# Altium schematic symbol library HGH.SchLib: 274 symbols (part 2 of 2)
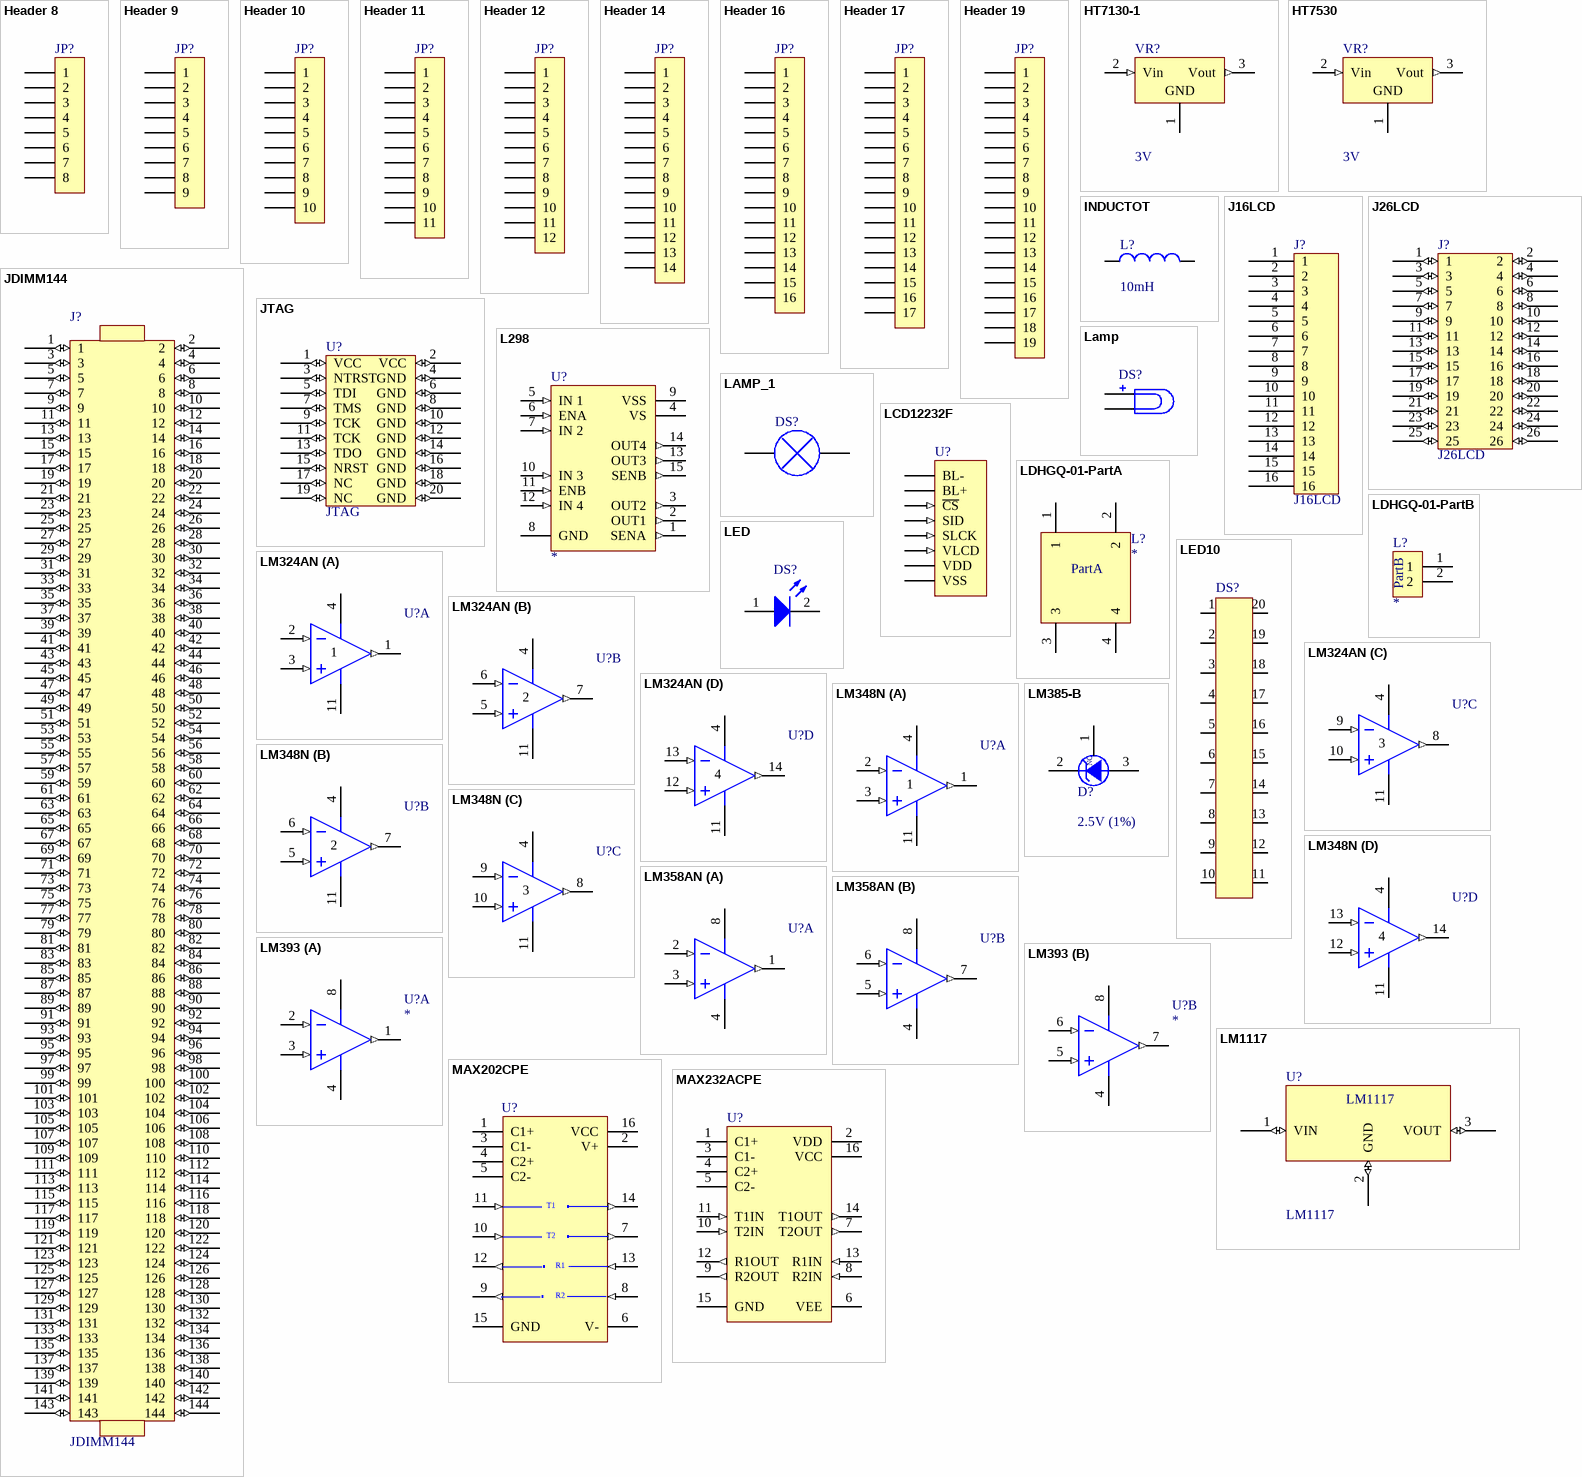
[diagram p10: symbols Header 8 to MAX232ACPE]

## LCD12232F
designator U?
LCD-HEAD8
footprint HEAD8M
footprint HEAD8M - F
pins: 1 BL- (power), 2 BL+ (power), 3 ~{CS} (in), 4 SID (in), 5 SLCK (in), 6 VLCD (in), 7 VDD (power), 8 VSS (power)

## LDHGQ-01-PartA
designator L?
Residual  current  inductor; Class: Inductor; Subclass: Current
footprint LDHGQ-PartA
pins: 1, 2, 3, 4
text: PartA

## LDHGQ-01-PartB
designator L?
Residual  current  inductor; Class: Inductor; Subclass: Current
footprint LDHGQ-PartB
pins: 1, 2
text: PartB

## LED
designator DS?
Typical RED, GREEN, YELLOW, AMBER GaAs LED; Manufacturer: Generic Components; Class: Optoelectronic; Published: 08/06/2000; Publisher: Altium Hobart Technology Centre; SubClass: LED
simulation model LED2 (Diode)
footprint LED0.1-0.15
footprint LED0.1-0.22
pins: 1 A, 2 K

## LED10
designator DS?
Typical RED, GREEN, YELLOW, AMBER GaAs LED; Manufacturer: Generic Components; Class: Optoelectronic; Published: 08/06/2000; Publisher: Altium Hobart Technology Centre; SubClass: LED
simulation model LED2 (Diode)
footprint DIP20
pins: 1 A, 2 A, 3 A, 4 A, 5 A, 6 A, 7 A, 8 A, 9 A, 10 A, 11 K, 12 K, 13 K, 14 K, 15 K, 16 K, 17 K, 18 K, 19 K, 20 K

## LM324AN
designator U?
Low-Power Quad Operational Amplifier; Manufacturer: National Semiconductor; Published: 15/04/2002; Publisher: Altium Hobart Technology Centre; Class: Amplifier; SubClass: Operational Amplifier
simulation model LM324_NSC (SUBCKT)
footprint DIP14
footprint SOP14_324_50MIL
pins on every part: 4 V+ (power), 11 GND (power)
part A pins: 1 OUT (out), 2 IN- (in), 3 IN+ (in)
part B pins: 5 IN+ (in), 6 IN- (in), 7 OUT (out)
part C pins: 8 OUT (out), 9 IN- (in), 10 IN+ (in)
part D pins: 12 IN+ (in), 13 IN- (in), 14 OUT (out)

## LM348N
designator U?
Quad 741 Operational Amplifier; Manufacturer: National Semiconductor; Published: 15/04/2002; Publisher: Altium Hobart Technology Centre; Class: Amplifier; SubClass: Operational Amplifier
simulation model LM348 (SUBCKT)
footprint DIP14
pins on every part: 4 V+ (power), 11 V- (power)
part A pins: 1 OUT (out), 2 IN- (in), 3 IN+ (in)
part B pins: 5 IN+ (in), 6 IN- (in), 7 OUT (out)
part C pins: 8 OUT (out), 9 IN- (in), 10 IN+ (in)
part D pins: 12 IN+ (in), 13 IN- (in), 14 OUT (out)

## LM358AN
designator U?
Low-Power Dual Operational Amplifier; Manufacturer: National Semiconductor; Published: 15/04/2002; Publisher: Altium Hobart Technology Centre; Class: Amplifier; SubClass: Operational Amplifier
simulation model LM358_NSC (SUBCKT)
footprint DIP8
pins on every part: 4 GND (power), 8 V+ (power)
part A pins: 1 OUT (out), 2 IN- (in), 3 IN+ (in)
part B pins: 5 IN+ (in), 6 IN- (in), 7 OUT (out)

## LM385-B
designator D?  value 2.5V (1%)
Micropower Voltage Reference Diode; Manufacturer: National Semiconductor; Class: Power Management; Published: 15/04/2002; Publisher: Altium Hobart Technology Centre; SubClass: Voltage Reference
footprint BCY-3 -F
footprint BCY-3 -F
footprint BCY-3-F/X
pins: 1 NC, 2 V+ (power), 3 V-

## LM393
designator U?
footprint DIP8
part A pins: 1 OUT (out), 2 IN- (in), 3 IN+ (in), 4 GND (power), 8 V+ (power)
part B pins: 4 GND (power), 5 IN+ (in), 6 IN- (in), 7 OUT (out), 8 V+ (power)

## LM1117
designator U?
footprint DSO-G3/P2.3
pins: 1 VIN (io), 2 GND (io), 3 VOUT (io)

## MAX202CPE
designator U?
+5V RS-232 Transceiver with 0.1uF External Capacitor; Manufacturer: Maxim; Class: Communication; Published: 16/01/2001; Publisher: Altium Hobart Technology Centre; SubClass: Transceiver
footprint DIP16
footprint SOP16_202
pins: 1 C1+, 2 V+ (power), 3 C1-, 4 C2+, 5 C2-, 6 V- (power), 7 T2OUT (out), 8 R2IN (in), 9 R2OUT (out), 10 T2IN (in), 11 T1IN (in), 12 R1OUT (out), 13 R1IN (in), 14 T1OUT (out), 15 GND (power), 16 VCC (power)
text: T1; T2; R1; R2

## MAX232ACPE
designator U?
+5V Powered, Multi-Channel RS-232 Driver/Receiver; Manufacturer: Maxim; Class: Communication; SubClass: Transceiver; Published: 16/01/2001; Publisher: Altium Hobart Technology Centre
footprint DIP16
pins: 1 C1+, 2 VDD (power), 3 C1-, 4 C2+, 5 C2-, 6 VEE (power), 7 T2OUT (out), 8 R2IN (in), 9 R2OUT (out), 10 T2IN (in), 11 T1IN (in), 12 R1OUT (out), 13 R1IN (in), 14 T1OUT (out), 15 GND (power), 16 VCC (power)

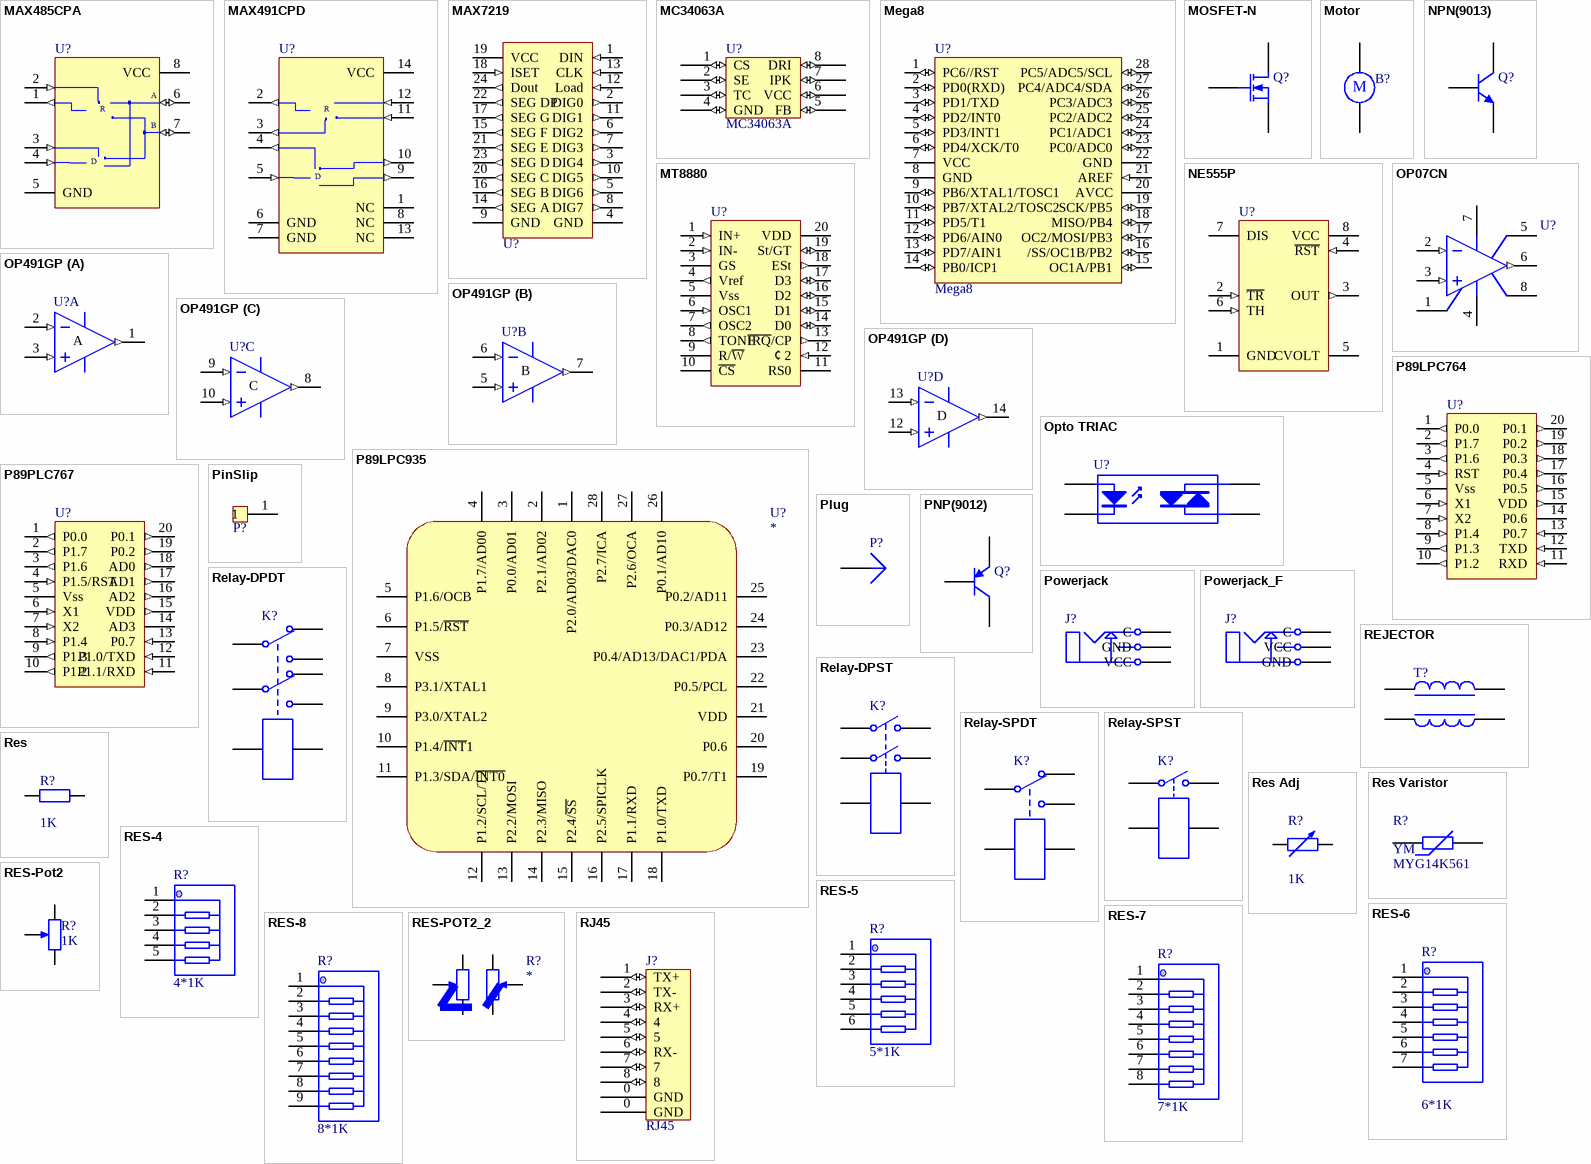
[diagram p6: symbols MAX485CPA to RJ45]

## MAX485CPA
designator U?
Low-Power, Slew-Rate-Limited RS-485/RS-422 Transceiver; Manufacturer: Maxim; Class: Communication; Published: 16/01/2001; Publisher: Altium Hobart Technology Centre; SubClass: Transceiver
footprint DIP8
footprint SOP8-max485
pins: 1 RO (out), 2 ~{RE} (in), 3 DE (in), 4 DI (in), 5 GND (power), 6 A (io), 7 B (io), 8 VCC (power)
text: R; D

## MAX491CPD
designator U?
Low-Power, Slew-Rate-Limited RS-485/RS-422 Transceiver; Manufacturer: Maxim; Class: Communication; Published: 16/01/2001; Publisher: Altium Hobart Technology Centre; SubClass: Transceiver
footprint DIP14
pins: 1 NC, 2 RO (out), 3 ~{RE} (out), 4 DE (out), 5 DI (in), 6 GND (power), 7 GND (power), 8 NC, 9 Y (out), 10 Z (out), 11 B (in), 12 A (in), 13 NC, 14 VCC (power)
text: R; D

## MAX7219
designator U?
Serial input/output / common-cathode display drivers; Manufacturer: Fairchild Semiconductor; Class: Logic; Published: 15/04/2002; Publisher: Altium Hobart Technology Centre
footprint DIP24 - 1
pins: 1 DIN (in), 2 DIG0 (out), 3 DIG4 (out), 4 GND (power), 5 DIG6 (out), 6 DIG2 (out), 7 DIG3 (out), 8 DIG7 (out), 9 GND (power), 10 DIG5 (out), 11 DIG1 (out), 12 Load (in), 13 CLK (in), 14 SEG A (out), 15 SEG F (out), 16 SEG B (out), 17 SEG G (out), 18 ISET (in), 19 VCC (power), 20 SEG C (out), 21 SEG E (out), 22 SEG DP (out), 23 SEG D (out), 24 Dout (out)

## MC34063A
designator U?
footprint SOP-8
pins: 1 CS (io), 2 SE (io), 3 TC (io), 4 GND (io), 5 FB (io), 6 VCC (io), 7 IPK (io), 8 DRI (io)

## Mega8
designator U?
footprint DIP28-1
pins: 1 PC6//RST (io), 2 PD0(RXD) (io), 3 PD1/TXD (io), 4 PD2/INT0 (io), 5 PD3/INT1 (io), 6 PD4/XCK/T0 (io), 7 VCC (power), 8 GND (power), 9 PB6/XTAL1/TOSC1 (io), 10 PB7/XTAL2/TOSC2 (io), 11 PD5/T1 (io), 12 PD6/AIN0 (io), 13 PD7/AIN1 (io), 14 PB0/ICP1 (io), 15 OC1A/PB1 (io), 16 /SS/OC1B/PB2 (io), 17 OC2/MOSI/PB3 (io), 18 MISO/PB4 (io), 19 SCK/PB5 (io), 20 AVCC (power), 21 AREF (in), 22 GND (power), 23 PC0/ADC0 (io), 24 PC1/ADC1 (io), 25 PC2/ADC2 (io), 26 PC3/ADC3 (io), 27 PC4/ADC4/SDA (io), 28 PC5/ADC5/SCL (io)

## MOSFET-N
designator Q?
N-Channel MOSFET; Manufacturer: Generic Components; Class: Discrete; SubClass: MOSFET - Low Power; Published: 08/06/2000; Publisher: Altium Hobart Technology Centre
simulation model NMOS (MOSFET-N)
footprint SIP-W3
pins: 1 G, 2 D, 3 S

## Motor
designator B?
Motor, General Kind; Manufacturer: Generic Components; Published: 1999
pins: 1, 2
text: M

## MT8880
designator U?
DTMF transmitter/receiver; Class: DTMF
footprint DIP20 (Model Description)
pins: 1 IN+ (in), 2 IN- (in), 3 GS, 4 Vref (out), 5 Vss (power), 6 OSC1 (in), 7 OSC2 (out), 8 TONE (out), 9 R/~{W}, 10 ~{CS}, 11 RS0, 12 ￠2 (in), 13 ~{IRQ}/CP (out), 14 D0 (io), 15 D1 (io), 16 D2 (io), 17 D3 (io), 18 ESt (out), 19 St/GT (io), 20 VDD (power)

## NE555P
designator U?
Precision Timer; Text Field7: Published 16-Jan-2001
footprint DIP8
pins: 1 GND (power), 2 ~{TR} (in), 3 OUT (out), 4 ~{RST} (in), 5 CVOLT, 6 TH (in), 7 DIS (oc), 8 VCC (power)

## NPN(9013)
designator Q?
NPN Bipolar Transistor; Manufacturer: Generic Components; Class: Discrete; SubClass: BJT - Low Power; Published: 08/06/2000; Publisher: Altium Hobart Technology Centre
simulation model NPN
signal-integrity model NPN
footprint SOT-3L (2N3906/2A/PNP)
footprint BCY-3/X
footprint 3_diobe
footprint BCY-3
footprint Model Name (Model Description)
pins: 1 C, 2 B, 3 E

## OP07CN
designator U?
Very Low Offset Single Bipolar Operational Amplifier; Manufacturer: ST-Microelectronics; Note: Pins 5 is Not Connected; Published: 24/08/2001; Publisher: Altium Hobart Technology Centre; Class: Amplifier; SubClass: Operational Amplifier
simulation model OP07C (SUBCKT)
footprint DIP8
pins: 1 NULL1, 2 IN- (in), 3 IN+ (in), 4 V- (power), 5 NC, 6 OUT (out), 7 V+ (power), 8 NULL2

## OP491GP
designator U?
Micropower Single-Supply Rail-to-Rail Input/Output Operational Amplifier; Manufacturer: Analog Devices; Published: 8/06/2000; Publisher: Altium Hobart Technology Centre; Class: Amplifier; SubClass: Operational Amplifier
simulation model OP491G (SUBCKT)
footprint DIP14
pins on every part: 4 V+ (power) hidden to V+, 11 V- (power) hidden to V-
part A pins: 1 OUT (out), 2 IN- (in), 3 IN+ (in)
part B pins: 5 IN+ (in), 6 IN- (in), 7 OUT (out)
part C pins: 8 OUT (out), 9 IN- (in), 10 IN+ (in)
part D pins: 12 IN+ (in), 13 IN- (in), 14 OUT (out)
part A text: A
part B text: B
part C text: C
part D text: D

## Opto TRIAC
designator U?
Opto-Triac; Manufacturer: Generic Components; Class: Optoelectronic; Published: 1999
pins: 1 A, 2 K, 3 A/K, 4 A/K

## P89LPC764
designator U?
MCU; Class: MCU
footprint DIP20
pins: 1 P0.0 (out), 2 P1.7 (out), 3 P1.6 (out), 4 RST (in), 5 Vss (power), 6 X1 (in), 7 X2 (in), 8 P1.4 (in), 9 P1.3 (out), 10 P1.2 (out), 11 RXD (in), 12 TXD (in), 13 P0.7 (in), 14 P0.6 (power), 15 VDD (out), 16 P0.5 (out), 17 P0.4 (out), 18 P0.3 (out), 19 P0.2 (out), 20 P0.1 (out)

## P89LPC935
designator U?
MCU; Class: MCU
footprint PLCC28 (Model Description)
footprint TSSOP-28/4.4*10
pins: 1 P2.0/AD03/DAC0, 2 P2.1/AD02, 3 P0.0/AD01, 4 P1.7/AD00, 5 P1.6/OCB, 6 P1.5/~{RST}, 7 VSS (power), 8 P3.1/XTAL1, 9 P3.0/XTAL2, 10 P1.4/~{INT}1, 11 P1.3/SDA/~{INT0}, 12 P1.2/SCL/T2, 13 P2.2/MOSI, 14 P2.3/MISO, 15 P2.4/~{SS}, 16 P2.5/SPICLK, 17 P1.1/RXD, 18 P1.0/TXD, 19 P0.7/T1, 20 P0.6, 21 VDD (power), 22 P0.5/PCL, 23 P0.4/AD13/DAC1/PDA, 24 P0.3/AD12, 25 P0.2/AD11, 26 P0.1/AD10, 27 P2.6/OCA, 28 P2.7/ICA

## P89PLC767
designator U?
MCU; Class: MCU
footprint DIP20 (Model Description)
pins: 1 P0.0 (out), 2 P1.7 (out), 3 P1.6 (out), 4 P1.5/RST (in), 5 Vss (power), 6 X1 (in), 7 X2 (in), 8 P1.4 (in), 9 P1.3 (out), 10 P1.2 (out), 11 P1.1/RXD (in), 12 P1.0/TXD (in), 13 P0.7 (in), 14 AD3 (power), 15 VDD (out), 16 AD2 (out), 17 AD1 (out), 18 AD0 (out), 19 P0.2 (out), 20 P0.1 (out)

## PinSlip
designator P?  (value not drawn)
Pin
footprint PinSlip
footprint PinSlip-1
footprint PinSlip-2
pins: 1

## Plug
designator P?
Plug; Manufacturer: Generic Components; Class: Connector
signal-integrity model Connector
pins: 1

## PNP(9012)
designator Q?
PNP Bipolar Transistor; Manufacturer: Generic Components; Class: Discrete; SubClass: BJT - Low Power; Published: 08/06/2000; Publisher: Altium Hobart Technology Centre
simulation model PNP
signal-integrity model PNP
footprint BCY-3
footprint BCY-3/X
footprint SOT-23-3L
footprint SOT-3L (2N3906/2A/PNP)
pins: 1 C, 2 B, 3 E

## Powerjack
designator J?
2-Conductor Jack with 1 break contact; Manufacturer: Generic Components; Class: Connector
signal-integrity model Connector
footprint PWJ-2/3
pins: 1 GND, 2 VCC, 3 C

## Powerjack_F
designator J?
2-Conductor Jack with 1 break contact; Manufacturer: Generic Components; Class: Connector
signal-integrity model Connector
footprint PWJ-2/3
pins: 1 VCC, 2 GND, 3 C

## REJECTOR
designator T?
rejector; Manufacturer: Generic Components; Class: Passive; Published: 08/06/2000; Publisher: Altium Hobart Technology Centre
simulation model TRANSFORMER (Transformer)
footprint L4
pins: 1, 2, 3, 4

## Relay-DPDT
designator K?
Dual-Pole Dual-Throw Relay; Manufacturer: Generic Components; Class: Electro-mechanical; Published: 1999; SubClass: Relay
simulation model DPDTRELAY (Spice Subcircuit)
pins: 1, 2, 3, 4, 5, 6, 7, 8

## Relay-DPST
designator K?
Dual-Pole Single-Throw Relay; Manufacturer: Generic Components; Class: Electro-mechanical; Published: 1999; SubClass: Relay
simulation model DPSTRELAY (Spice Subcircuit)
pins: 1, 2, 3, 4, 5, 6

## Relay-SPDT
designator K?
Single-Pole Dual-Throw Relay; Manufacturer: Generic Components; Class: Electro-mechanical; Published: 1999; SubClass: Relay
simulation model SPDTRELAY (Spice Subcircuit)
footprint SRD-12VDC - SL-C
footprint JZC-32F - 1
pins: 1, 2, 3, 4, 5

## Relay-SPST
designator K?
Single-Pole Single-Throw Relay; Manufacturer: Generic Components; Class: Electro-mechanical; Published: 1999; SubClass: Relay
simulation model SPSTRELAY (Spice Subcircuit)
footprint JZC-32F
footprint JQX-102F
footprint JZC-43F
footprint JZC-43F - F
footprint JQX102F - JZC32F
footprint JZC-32F - T
footprint JZC-SRD-SL-A
footprint JZC-SLA-SL-A
pins: 1, 2, 3, 4

## Res
designator R?  value 1K
Resistor; Manufacturer: Generic Components; Class: Passive; Published: 08/06/2000; Publisher: Altium Hobart Technology Centre; SubClass: Resistor
simulation model RESISTOR (Resistor)
signal-integrity model Res2
footprint AXLAL0.4
footprint AXLAL0.6
footprint AXLAL0.6-P
footprint AXLAL0.9
footprint R2012-0805
footprint AXLAL0.4 - P
pins: 1, 2

## Res Adj
designator R?  value 1K
Variable Resistor; Manufacturer: Generic Components; Class: Passive; Set Position: 0.5; Published: 08/06/2000; Publisher: Altium Hobart Technology Centre; SubClass: Resistor
simulation model VRES (Variable Resistor)
signal-integrity model Res Adj
footprint 502AT
pins: 1, 2

## Res Varistor
designator R?, comment MYG14K561
Varistor (Voltage-Sensitive Resistor); Published: 24-Mar-1999; LatestRevisionDate: 4-Mar-2005; LatestRevisionNote: PCB Footprint replaced.; Publisher: Altium Limited
footprint YM-14
pins: 1, 2
text: YM

## RES-4
designator R?  value 4*1K
Resistor Array; Class: Passive; SubClass: Resistor
footprint PIN-5
pins: 1, 2, 3, 4, 5

## RES-5
designator R?  value 5*1K
Resistor Array; Class: Passive; SubClass: Resistor
footprint PIN-6
pins: 1, 2, 3, 4, 5, 6

## RES-6
designator R?  value 6*1K
Resistor Array; Class: Passive; SubClass: Resistor
footprint PIN-7
pins: 1, 2, 3, 4, 5, 6, 7

## RES-7
designator R?  value 7*1K
Resistor Array; Class: Passive; SubClass: Resistor
footprint PIN-8
pins: 1, 2, 3, 4, 5, 6, 7, 8

## RES-8
designator R?  value 8*1K
Resistor Array; Class: Passive; SubClass: Resistor
footprint PIN-9
pins: 1, 2, 3, 4, 5, 6, 7, 8, 9

## RES-Pot2
designator R?  value 1K
Potentiometer; Class: Passive; SubClass: Potentiometer
footprint DWQ-W
footprint DWQ--SZ
footprint DWQ - 2W/KB
footprint VR-Z
footprint VR-S
pins: 1 BOT, 2 TAP, 3 TOP

## RES-POT2_2
designator R?
POT2
footprint RES-POT2_2
pins: 1 BOT, 2 TAP, 3 TOP, 4 TOP, 5 TAP, 6 BOT

## RJ45
designator J?
footprint RJ45LPF
pins: 0 GND, 0 GND, 1 TX+ (io), 2 TX- (io), 3 RX+ (io), 4 (io), 5 (io), 6 RX- (io), 7 (io), 8 (io)

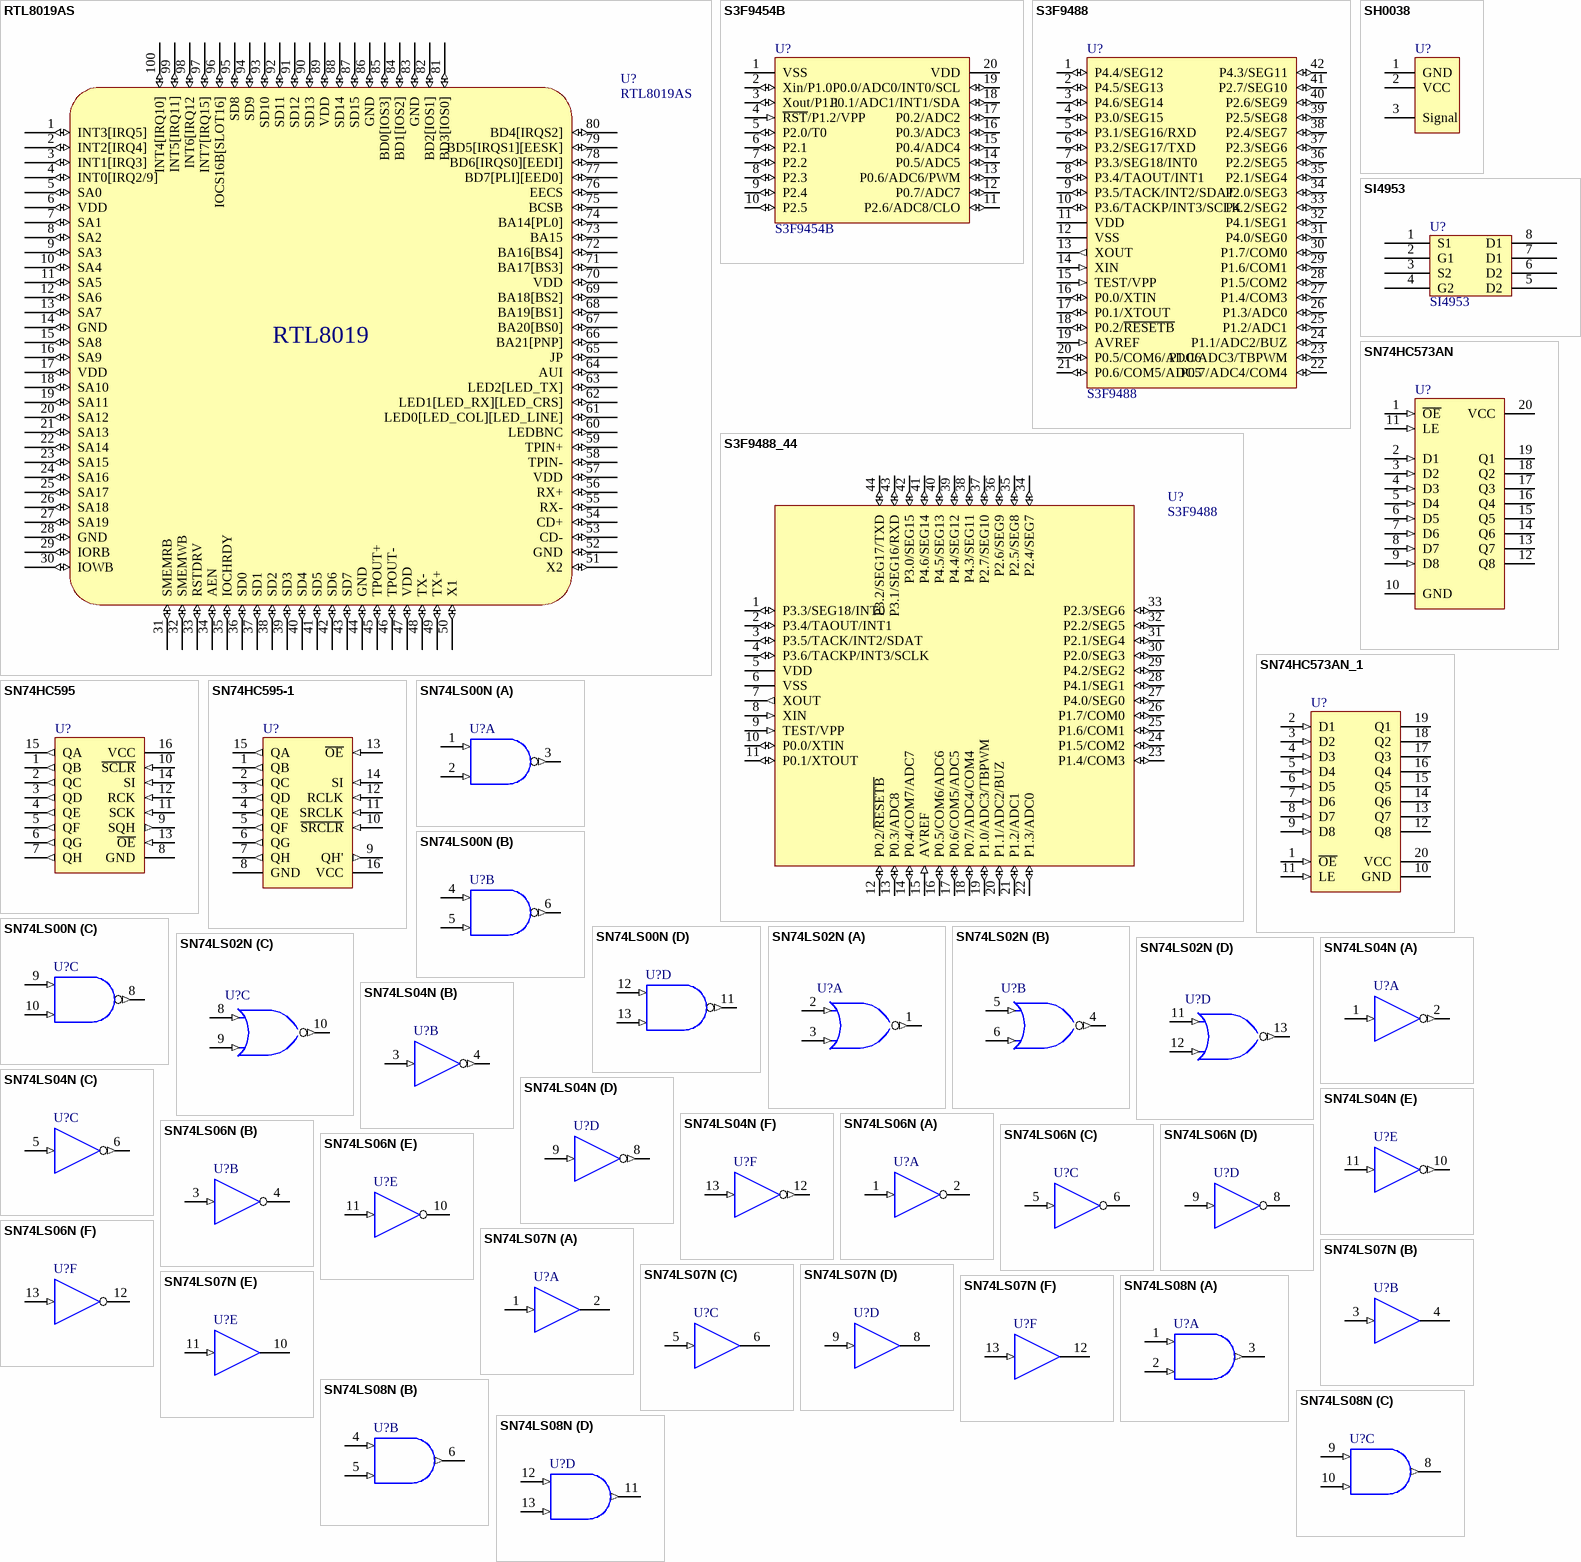
[diagram p7: symbols RTL8019AS to SN74LS08N]

## RTL8019AS
designator U?
footprint QFP100-RLT8019
pins: 1 INT3[IRQ5] (io), 2 INT2[IRQ4] (io), 3 INT1[IRQ3] (io), 4 INT0[IRQ2/9] (io), 5 SA0 (io), 6 VDD (io), 7 SA1 (io), 8 SA2 (io), 9 SA3 (io), 10 SA4 (io), 11 SA5 (io), 12 SA6 (io), 13 SA7 (io), 14 GND (io), 15 SA8 (io), 16 SA9 (io), 17 VDD (io), 18 SA10 (io), 19 SA11 (io), 20 SA12 (io), 21 SA13 (io), 22 SA14 (io), 23 SA15 (io), 24 SA16 (io), 25 SA17 (io), 26 SA18 (io), 27 SA19 (io), 28 GND (io), 29 IORB (io), 30 IOWB (io), 31 SMEMRB (io), 32 SMEMWB (io), 33 RSTDRV (io), 34 AEN (io), 35 IOCHRDY (io), 36 SD0 (io), 37 SD1 (io), 38 SD2 (io), 39 SD3 (io), 40 SD4 (io), 41 SD5 (io), 42 SD6 (io), 43 SD7 (io), 44 GND (io), 45 TPOUT+ (io), 46 TPOUT- (io), 47 VDD (io), 48 TX- (io), 49 TX+ (io), 50 X1 (io), 51 X2 (io), 52 GND (io), 53 CD- (io), 54 CD+ (io), 55 RX- (io), 56 RX+ (io), 57 VDD (io), 58 TPIN- (io), 59 TPIN+ (io), 60 LEDBNC (io), 61 LED0[LED_COL][LED_LINE] (io), 62 LED1[LED_RX][LED_CRS] (io), 63 LED2[LED_TX] (io), 64 AUI (io), 65 JP (io), 66 BA21[PNP] (io), 67 BA20[BS0] (io), 68 BA19[BS1] (io), 69 BA18[BS2] (io), 70 VDD (io), 71 BA17[BS3] (io), 72 BA16[BS4] (io), 73 BA15 (io), 74 BA14[PL0] (io), 75 BCSB (io), 76 EECS (io), 77 BD7[PLI][EED0] (io), 78 BD6[IRQS0][EEDI] (io), 79 BD5[IRQS1][EESK] (io), 80 BD4[IRQS2] (io), 81 BD3[IOS0] (io), 82 BD2[IOS1] (io), 83 GND (io), 84 BD1[IOS2] (io), 85 BD0[IOS3] (io), 86 GND (io), 87 SD15 (io), 88 SD14 (io), 89 VDD (io), 90 SD13 (io), 91 SD12 (io), 92 SD11 (io), 93 SD10 (io), 94 SD9 (io), 95 SD8 (io), 96 IOCS16B[SLOT16] (io), 97 INT7[IRQ15] (io), 98 INT6[IRQ12 (io), 99 INT5[IRQ11] (io), 100 INT4[IRQ10] (io)
text: RTL8019

## S3F9454B
designator U?
MUC; Class: MUC
footprint DIP20
pins: 1 VSS (power), 2 Xin/P1.0 (io), 3 Xout/P1.1 (io), 4 ~{RST}/P1.2/VPP (in), 5 P2.0/T0 (io), 6 P2.1 (io), 7 P2.2 (io), 8 P2.3 (io), 9 P2.4 (io), 10 P2.5 (io), 11 P2.6/ADC8/CLO (io), 12 P0.7/ADC7 (io), 13 P0.6/ADC6/PWM (io), 14 P0.5/ADC5 (io), 15 P0.4/ADC4 (io), 16 P0.3/ADC3 (io), 17 P0.2/ADC2 (io), 18 P0.1/ADC1/INT1/SDA (io), 19 P0.0/ADC0/INT0/SCL (io), 20 VDD (power)

## S3F9488
designator U?
MUC,Flash8K,LCD drive, A/D 9 Channels/10resolution; Class: MUC
footprint SDIP42/1.78
pins: 1 P4.4/SEG12 (io), 2 P4.5/SEG13 (io), 3 P4.6/SEG14 (io), 4 P3.0/SEG15 (io), 5 P3.1/SEG16/RXD (io), 6 P3.2/SEG17/TXD (io), 7 P3.3/SEG18/INT0 (io), 8 P3.4/TAOUT/INT1 (io), 9 P3.5/TACK/INT2/SDAT (io), 10 P3.6/TACKP/INT3/SCLK (io), 11 VDD (power), 12 VSS (power), 13 XOUT (out), 14 XIN (in), 15 TEST/VPP (in), 16 P0.0/XTIN (io), 17 P0.1/XTOUT (io), 18 P0.2/~{RESETB} (io), 19 AVREF (in), 20 P0.5/COM6/ADC6 (io), 21 P0.6/COM5/ADC5 (io), 22 P0.7/ADC4/COM4 (io), 23 P1.0/ADC3/TBPWM (io), 24 P1.1/ADC2/BUZ (io), 25 P1.2/ADC1 (io), 26 P1.3/ADC0 (io), 27 P1.4/COM3 (io), 28 P1.5/COM2 (io), 29 P1.6/COM1 (io), 30 P1.7/COM0 (io), 31 P4.0/SEG0 (io), 32 P4.1/SEG1 (io), 33 P4.2/SEG2 (io), 34 P2.0/SEG3 (io), 35 P2.1/SEG4 (io), 36 P2.2/SEG5 (io), 37 P2.3/SEG6 (io), 38 P2.4/SEG7 (io), 39 P2.5/SEG8 (io), 40 P2.6/SEG9 (io), 41 P2.7/SEG10 (io), 42 P4.3/SEG11 (io)

## S3F9488_44
designator U?, comment S3F9488
MUC,Flash8K,LCD drive, A/D 9 Channels/10resolution; Class: MUC
footprint QFP10X10-G44/0.4-2.4 (QFP; 44 Leads; Body 10 x 10 mm; Pitch 0.8 mm)
pins: 1 P3.3/SEG18/INT0 (io), 2 P3.4/TAOUT/INT1 (io), 3 P3.5/TACK/INT2/SDAT (io), 4 P3.6/TACKP/INT3/SCLK (io), 5 VDD (power), 6 VSS (power), 7 XOUT (out), 8 XIN (in), 9 TEST/VPP (in), 10 P0.0/XTIN (io), 11 P0.1/XTOUT (io), 12 P0.2/~{RESETB} (io), 13 P0.3/ADC8 (io), 14 P0.4/COM7/ADC7 (io), 15 AVREF (in), 16 P0.5/COM6/ADC6 (io), 17 P0.6/COM5/ADC5 (io), 18 P0.7/ADC4/COM4 (io), 19 P1.0/ADC3/TBPWM (io), 20 P1.1/ADC2/BUZ (io), 21 P1.2/ADC1 (io), 22 P1.3/ADC0 (io), 23 P1.4/COM3 (io), 24 P1.5/COM2 (io), 25 P1.6/COM1 (io), 26 P1.7/COM0 (io), 27 P4.0/SEG0 (io), 28 P4.1/SEG1 (io), 29 P4.2/SEG2 (io), 30 P2.0/SEG3 (io), 31 P2.1/SEG4 (io), 32 P2.2/SEG5 (io), 33 P2.3/SEG6 (io), 34 P2.4/SEG7 (io), 35 P2.5/SEG8 (io), 36 P2.6/SEG9 (io), 37 P2.7/SEG10 (io), 38 P4.3/SEG11 (io), 39 P4.4/SEG12 (io), 40 P4.5/SEG13 (io), 41 P4.6/SEG14 (io), 42 P3.0/SEG15 (io), 43 P3.1/SEG16/RXD (io), 44 P3.2/SEG17/TXD (io)

## SH0038
designator U?
Receiver Infrared; Manufacturer: Generic Components; Class: Receiver; SubClass: Infrared
signal-integrity model Connector
footprint SIP-HS0038
pins: 1 GND, 2 VCC, 3 Signal

## SI4953
designator U?
footprint SOP-8
pins: 1 S1, 2 G1, 3 S2, 4 G2, 5 D2, 6 D2, 7 D1, 8 D1

## SN74HC573AN
designator U?
Octal Transparent D-Type Latches with 3-State Outputs; Manufacturer: Texas Instruments; Class: Logic; SubClass: Latch; Published: 8-Jun-2000.; Publisher: Altium Hobart Technology Centre
signal-integrity model SN74HC573AN
footprint DIP20
pins: 1 ~{OE} (in), 2 D1 (in), 3 D2 (in), 4 D3 (in), 5 D4 (in), 6 D5 (in), 7 D6 (in), 8 D7 (in), 9 D8 (in), 10 GND (power), 11 LE (in), 12 Q8 (hiz), 13 Q7 (hiz), 14 Q6 (hiz), 15 Q5 (hiz), 16 Q4 (hiz), 17 Q3 (hiz), 18 Q2 (hiz), 19 Q1 (hiz), 20 VCC (power)

## SN74HC573AN_1
designator U?
Octal Transparent D-Type Latches with 3-State Outputs; Manufacturer: Texas Instruments; Class: Logic; SubClass: Latch; Published: 8-Jun-2000.; Publisher: Altium Hobart Technology Centre
signal-integrity model SN74HC573AN
footprint DIP20
pins: 1 ~{OE} (in), 2 D1 (in), 3 D2 (in), 4 D3 (in), 5 D4 (in), 6 D5 (in), 7 D6 (in), 8 D7 (in), 9 D8 (in), 10 GND (power), 11 LE (in), 12 Q8 (hiz), 13 Q7 (hiz), 14 Q6 (hiz), 15 Q5 (hiz), 16 Q4 (hiz), 17 Q3 (hiz), 18 Q2 (hiz), 19 Q1 (hiz), 20 VCC (power)

## SN74HC595
designator U?
8-Bit Shift Registers; Manufacturer: Texas Instruments; Class: Logic; Published: 8-Jun-2000.; Publisher: Altium Hobart Technology Centre
footprint DIP16
pins: 1 QB (out), 2 QC (out), 3 QD (out), 4 QE (out), 5 QF (out), 6 QG (out), 7 QH (out), 8 GND (power), 9 SQH (out), 10 ~{SCLR} (in), 11 SCK (in), 12 RCK (in), 13 ~{OE} (in), 14 SI (in), 15 QA (out), 16 VCC (power)

## SN74HC595-1
designator U?
8-Bit Shift Registers; Manufacturer: Texas Instruments; Class: Logic; Published: 8-Jun-2000.; Publisher: Altium Hobart Technology Centre
footprint DIP16
pins: 1 QB (out), 2 QC (out), 3 QD (out), 4 QE (out), 5 QF (out), 6 QG (out), 7 QH (out), 8 GND (power), 9 QH' (out), 10 ~{SRCLR} (in), 11 SRCLK (in), 12 RCLK (in), 13 ~{OE} (in), 14 SI (in), 15 QA (out), 16 VCC (power)

## SN74LS00N
designator U?
Quadruple 2-Input Positive-NAND Gate; Manufacturer: Texas Instruments; Class: Logic; Published: 8/06/2000; Publisher: Altium Hobart Technology Centre; SubClass: Gate
simulation model SN74LS00 (SIMCODE)
signal-integrity model SN74LS00N
footprint DIP14
pins on every part: 7 GND (power) hidden to GND, 14 VCC (power) hidden to VCC
part A pins: 1 A (in), 2 B (in), 3 Y (out)
part B pins: 4 A (in), 5 B (in), 6 Y (out)
part C pins: 8 Y (out), 9 A (in), 10 B (in)
part D pins: 11 Y (out), 12 A (in), 13 B (in)

## SN74LS02N
designator U?
Quadruple 2-Input Positive-NOR Gate; Manufacturer: Texas Instruments; Class: Logic; Published: 8/06/2000; Publisher: Altium Hobart Technology Centre; SubClass: Gate
simulation model SN74LS02 (SIMCODE)
signal-integrity model SN74LS02N
footprint DIP14
pins on every part: 7 GND (power) hidden to GND, 14 VCC (power) hidden to VCC
part A pins: 1 Y (out), 2 A (in), 3 B (in)
part B pins: 4 Y (out), 5 A (in), 6 B (in)
part C pins: 8 A (in), 9 B (in), 10 Y (out)
part D pins: 11 A (in), 12 B (in), 13 Y (out)

## SN74LS04N
designator U?
Hex Inverter; Manufacturer: Texas Instruments; Class: Logic; SubClass: Gate; Published: 8/06/2000; Publisher: Altium Hobart Technology Centre
simulation model SN74LS04 (SIMCODE)
signal-integrity model SN74LS04N
footprint DIP14
pins on every part: 7 GND (power) hidden to GND, 14 VCC (power) hidden to VCC
part A pins: 1 A (in), 2 Y (out)
part B pins: 3 A (in), 4 Y (out)
part C pins: 5 A (in), 6 Y (out)
part D pins: 8 Y (out), 9 A (in)
part E pins: 10 Y (out), 11 A (in)
part F pins: 12 Y (out), 13 A (in)

## SN74LS06N
designator U?
Hex Inverter Buffer / Driver with Open-Collector High-Voltage Outputs; Manufacturer: Texas Instruments; Class: Logic; SubClass: Gate; Published: 8/06/2000; Publisher: Altium Hobart Technology Centre
signal-integrity model SN74LS06N
footprint DIP14
pins on every part: 7 GND (power) hidden to GND, 14 VCC (power) hidden to VCC
part A pins: 1 A (in), 2 Y (oc)
part B pins: 3 A (in), 4 Y (oc)
part C pins: 5 A (in), 6 Y (oc)
part D pins: 8 Y (oc), 9 A (in)
part E pins: 10 Y (oc), 11 A (in)
part F pins: 12 Y (oc), 13 A (in)

## SN74LS07N
designator U?
Hex Buffer / Driver with Open-Collector High-Voltage Outputs; Manufacturer: Texas Instruments; Class: Logic; SubClass: Gate; Published: 8/06/2000; Publisher: Altium Hobart Technology Centre
signal-integrity model SN74LS07N
footprint DIP14
pins on every part: 7 GND (power) hidden to GND, 14 VCC (power) hidden to VCC
part A pins: 1 A (in), 2 Y (oc)
part B pins: 3 A (in), 4 Y (oc)
part C pins: 5 A (in), 6 Y (oc)
part D pins: 8 Y (oc), 9 A (in)
part E pins: 10 Y (oc), 11 A (in)
part F pins: 12 Y (oc), 13 A (in)

## SN74LS08N
designator U?
Quadruple 2-Input Positive-AND Gate; Manufacturer: Texas Instruments; Class: Logic; Published: 8/06/2000; Publisher: Altium Hobart Technology Centre; SubClass: Gate
simulation model SN74LS08 (SIMCODE)
signal-integrity model SN74LS08N
footprint DIP14
pins on every part: 7 GND (power) hidden to GND, 14 VCC (power) hidden to VCC
part A pins: 1 A (in), 2 B (in), 3 Y (out)
part B pins: 4 A (in), 5 B (in), 6 Y (out)
part C pins: 8 Y (out), 9 A (in), 10 B (in)
part D pins: 11 Y (out), 12 A (in), 13 B (in)

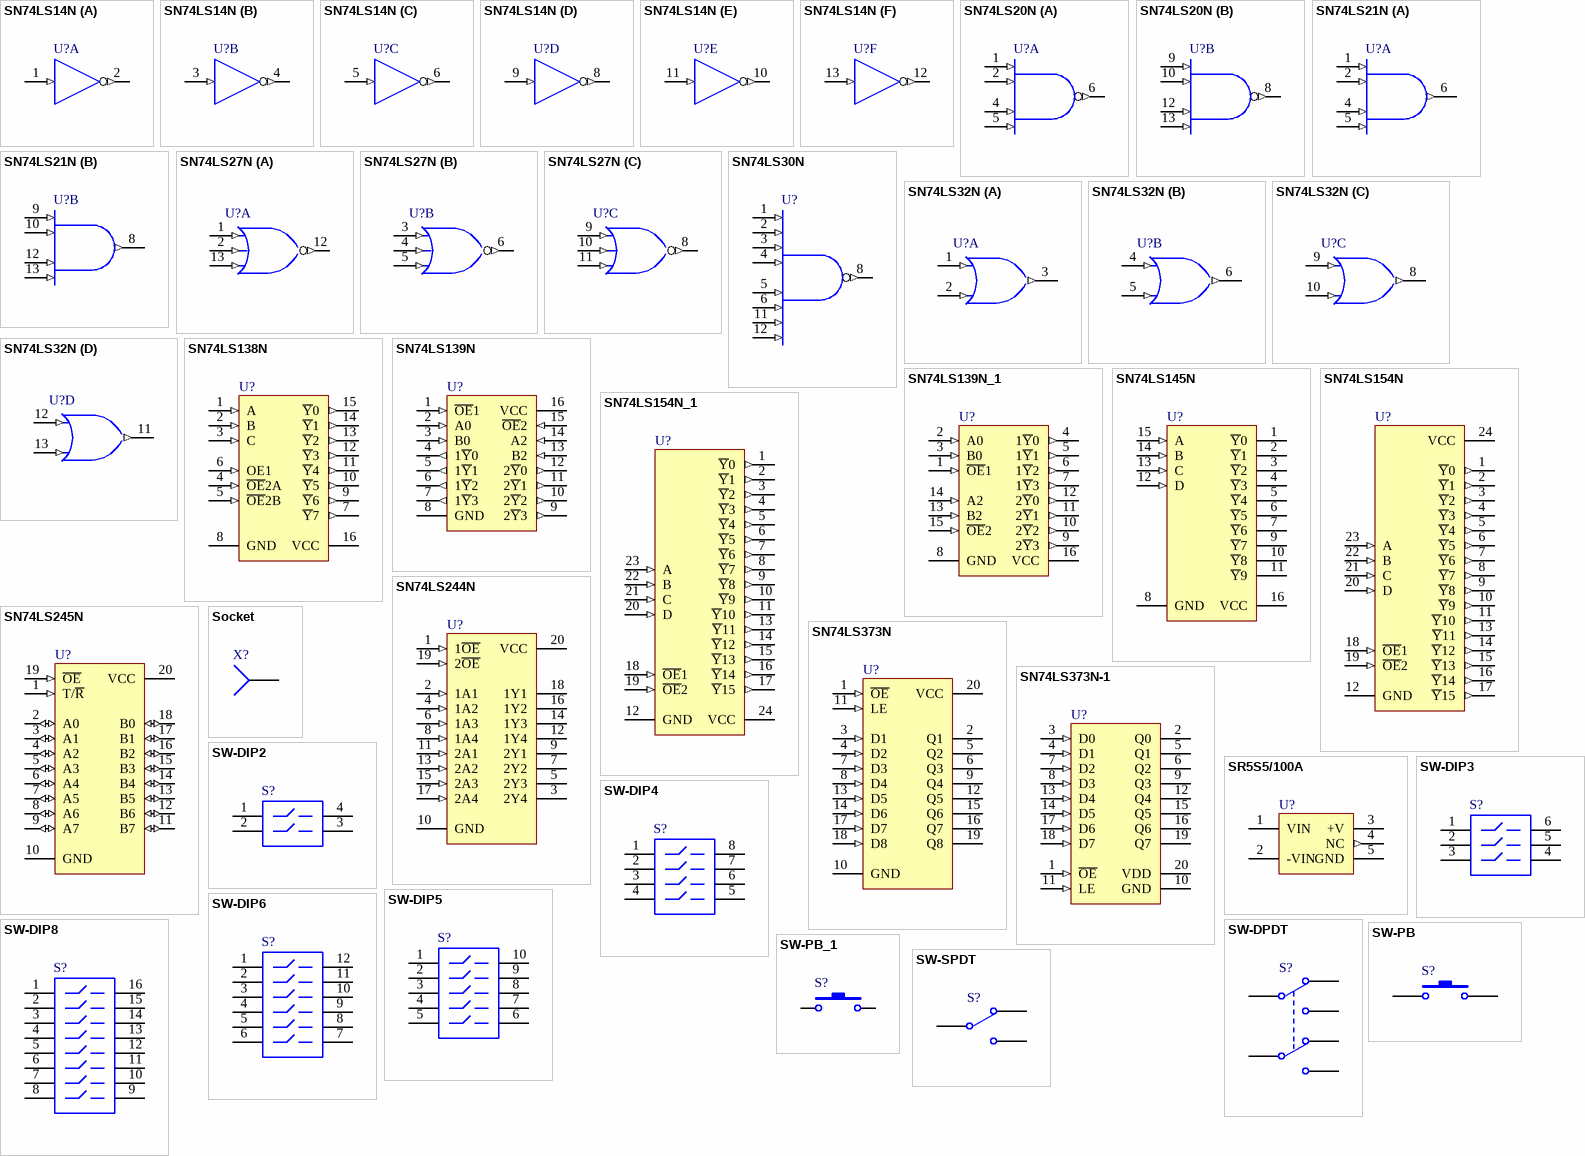
[diagram p8: symbols SN74LS14N to SW-SPDT]

## SN74LS14N
designator U?
Hex Schmitt-Trigger Inverter; Manufacturer: Texas Instruments; Class: Logic; SubClass: Gate; Published: 8/06/2000; Publisher: Altium Hobart Technology Centre
simulation model SN74LS14 (SIMCODE)
signal-integrity model SN74LS14N
footprint DIP14
pins on every part: 7 GND (power) hidden to GND, 14 VCC (power) hidden to VCC
part A pins: 1 A (in), 2 Y (out)
part B pins: 3 A (in), 4 Y (out)
part C pins: 5 A (in), 6 Y (out)
part D pins: 8 Y (out), 9 A (in)
part E pins: 10 Y (out), 11 A (in)
part F pins: 12 Y (out), 13 A (in)

## SN74LS20N
designator U?
Dual 4-Input Positive-NAND Gate; Manufacturer: Texas Instruments; Class: Logic; Note: Pins 3 and 11 are NC & not drawn.; Published: 8/06/2000; Publisher: Altium Hobart Technology Centre; SubClass: Gate
simulation model SN74LS20 (SIMCODE)
signal-integrity model SN74LS20N
footprint DIP14
pins on every part: 7 GND (power) hidden to GND, 14 VCC (power) hidden to VCC
part A pins: 1 A (in), 2 B (in), 4 C (in), 5 D (in), 6 Y (out)
part B pins: 8 Y (out), 9 A (in), 10 B (in), 12 C (in), 13 D (in)

## SN74LS21N
designator U?
Dual 4-Input Positive-AND Gate; Manufacturer: Texas Instruments; Class: Logic; Note: Pins 3 and 11 are NC & not drawn.; Published: 8/06/2000; Publisher: Altium Hobart Technology Centre; SubClass: Gate
simulation model SN74LS21 (SIMCODE)
signal-integrity model SN74LS21N
footprint DIP14
pins on every part: 7 GND (power) hidden to GND, 14 VCC (power) hidden to VCC
part A pins: 1 A (in), 2 B (in), 4 C (in), 5 D (in), 6 Y (out)
part B pins: 8 Y (out), 9 A (in), 10 B (in), 12 C (in), 13 D (in)

## SN74LS27N
designator U?
Triple 3-Input Positive-NOR Gate; Manufacturer: Texas Instruments; Class: Logic; Published: 8/06/2000; Publisher: Altium Hobart Technology Centre; SubClass: Gate
simulation model SN74LS27 (SIMCODE)
signal-integrity model SN74LS27N
footprint DIP14
pins on every part: 7 GND (power) hidden to GND, 14 VCC (power) hidden to VCC
part A pins: 1 A (in), 2  B (in), 12 Y (out), 13 C (in)
part B pins: 3 A (in), 4  B (in), 5 C (in), 6 Y (out)
part C pins: 8 Y (out), 9 A (in), 10  B (in), 11 C (in)

## SN74LS30N
designator U?
8-Input Positive-NAND Gate; Manufacturer: Texas Instruments; Class: Logic; Note: Pins 9, 10  and 13 are NC & not drawn.; Published: 8/06/2000; Publisher: Altium Hobart Technology Centre; SubClass: Gate
simulation model SN74LS30 (SIMCODE)
signal-integrity model SN74LS30N
footprint DIP14
pins: 1 A (in), 2 B (in), 3 C (in), 4 D (in), 5 E (in), 6 F (in), 7 GND (power) hidden to GND, 8 Y (out), 11 G (in), 12 H (in), 14 VCC (power) hidden to VCC

## SN74LS32N
designator U?
Quadruple 2-Input Positive-OR Gate; Manufacturer: Texas Instruments; Class: Logic; Published: 8/06/2000; Publisher: Altium Hobart Technology Centre; SubClass: Gate
simulation model SN74LS32 (SIMCODE)
signal-integrity model SN74LS32N
footprint DIP14
pins on every part: 7 GND (power) hidden to GND, 14 VCC (power) hidden to VCC
part A pins: 1 A (in), 2 B (in), 3 Y (out)
part B pins: 4 A (in), 5 B (in), 6 Y (out)
part C pins: 8 Y (out), 9 A (in), 10 B (in)
part D pins: 11 Y (out), 12 A (in), 13 B (in)

## SN74LS138N
designator U?
3-Line to 8-Line Decoder / Demultiplexer; Manufacturer: Texas Instruments; Revised: 12-July-2000: SIM Model Added.; Class: Logic; Published: 8/06/2000; Publisher: Altium Hobart Technology Centre; SubClass: Decoder/Demultiplexer
simulation model SN74LS138 (SIMCODE)
signal-integrity model SN74LS138N
footprint DIP16
pins: 1 A (in), 2 B (in), 3 C (in), 4 ~{OE}2A (in), 5 ~{OE}2B (in), 6 OE1 (in), 7 ~{Y}7 (out), 8 GND (power), 9 ~{Y}6 (out), 10 ~{Y}5 (out), 11 ~{Y}4 (out), 12 ~{Y}3 (out), 13 ~{Y}2 (out), 14 ~{Y}1 (out), 15 ~{Y}0 (out), 16 VCC (power)

## SN74LS139N
designator U?
Dual 1-of-4 Decoder/Demultiplexer; Manufacturer: ON Semiconductor; Class: Logic; Published: 15/04/2002; Publisher: Altium Hobart Technology Centre; SubClass: Decoder/Demultiplexer
signal-integrity model SN74LS139N
footprint DIP16
pins: 1 ~{OE}1 (in), 2 A0 (in), 3 B0 (in), 4 1~{Y}0 (out), 5 1~{Y}1 (out), 6 1~{Y}2 (out), 7 1~{Y}3 (out), 8 GND (power), 9 2~{Y}3 (out), 10 2~{Y}2 (out), 11 2~{Y}1 (out), 12 2~{Y}0 (out), 13 B2 (in), 14 A2 (in), 15 ~{OE}2 (in), 16 VCC (power)

## SN74LS139N_1
designator U?
Dual 1-of-4 Decoder/Demultiplexer; Manufacturer: ON Semiconductor; Class: Logic; Published: 15/04/2002; Publisher: Altium Hobart Technology Centre; SubClass: Decoder/Demultiplexer
signal-integrity model SN74LS139N
footprint DIP16
pins: 1 ~{OE}1 (in), 2 A0 (in), 3 B0 (in), 4 1~{Y}0 (out), 5 1~{Y}1 (out), 6 1~{Y}2 (out), 7 1~{Y}3 (out), 8 GND (power), 9 2~{Y}3 (out), 10 2~{Y}2 (out), 11 2~{Y}1 (out), 12 2~{Y}0 (out), 13 B2 (in), 14 A2 (in), 15 ~{OE}2 (in), 16 VCC (power)

## SN74LS145N
designator U?
BCD-to-Decimal Decoders / Drivers; Manufacturer: Texas Instruments; Class: Logic; SubClass: Decoder/Demultiplexer; Published: 8-Jun-2000.; Publisher: Altium Hobart Technology Centre
signal-integrity model SN74LS145N
footprint DIP16
pins: 1 ~{Y}0 (oc), 2 ~{Y}1 (oc), 3 ~{Y}2 (oc), 4 ~{Y}3 (oc), 5 ~{Y}4 (oc), 6 ~{Y}5 (oc), 7 ~{Y}6 (oc), 8 GND (power), 9 ~{Y}7 (oc), 10 ~{Y}8 (oc), 11 ~{Y}9 (oc), 12 D (in), 13 C (in), 14 B (in), 15 A (in), 16 VCC (power)

## SN74LS154N
designator U?
4-Line to 16-Line Decoder/Demultiplexer; Manufacturer: Fairchild Semiconductor; Class: Logic; Note: Generic Simulation model provided.; Published: 15/04/2002; Publisher: Altium Hobart Technology Centre; SubClass: Decoder/Demultiplexer
simulation model 74LS154 (SIMCODE)
signal-integrity model DM74LS154N
footprint DIP24
pins: 1 ~{Y}0 (out), 2 ~{Y}1 (out), 3 ~{Y}2 (out), 4 ~{Y}3 (out), 5 ~{Y}4 (out), 6 ~{Y}5 (out), 7 ~{Y}6 (out), 8 ~{Y}7 (out), 9 ~{Y}8 (out), 10 ~{Y}9 (out), 11 ~{Y}10 (out), 12 GND (power), 13 ~{Y}11 (out), 14 ~{Y}12 (out), 15 ~{Y}13 (out), 16 ~{Y}14 (out), 17 ~{Y}15 (out), 18 ~{OE}1 (in), 19 ~{OE}2 (in), 20 D (in), 21 C (in), 22 B (in), 23 A (in), 24 VCC (power)

## SN74LS154N_1
designator U?
4-Line to 16-Line Decoder/Demultiplexer; Manufacturer: Fairchild Semiconductor; Class: Logic; Note: Generic Simulation model provided.; Published: 15/04/2002; Publisher: Altium Hobart Technology Centre; SubClass: Decoder/Demultiplexer
simulation model 74LS154 (SIMCODE)
signal-integrity model DM74LS154N
footprint DIP24
pins: 1 ~{Y}0 (out), 2 ~{Y}1 (out), 3 ~{Y}2 (out), 4 ~{Y}3 (out), 5 ~{Y}4 (out), 6 ~{Y}5 (out), 7 ~{Y}6 (out), 8 ~{Y}7 (out), 9 ~{Y}8 (out), 10 ~{Y}9 (out), 11 ~{Y}10 (out), 12 GND (power), 13 ~{Y}11 (out), 14 ~{Y}12 (out), 15 ~{Y}13 (out), 16 ~{Y}14 (out), 17 ~{Y}15 (out), 18 ~{OE}1 (in), 19 ~{OE}2 (in), 20 D (in), 21 C (in), 22 B (in), 23 A (in), 24 VCC (power)

## SN74LS244N
designator U?
Octal Buffer and Line Driver with 3-State Outputs; Manufacturer: Texas Instruments; Revised: 12-July-2000: SIM Model Added.; Class: Logic; SubClass: Buffer/Line Driver; Published: 8/06/2000; Publisher: Altium Hobart Technology Centre
simulation model SN74LS244 (SIMCODE)
signal-integrity model SN74LS244N
footprint DIP20
pins: 1 1~{OE} (in), 2 1A1 (in), 3 2Y4 (hiz), 4 1A2 (in), 5 2Y3 (hiz), 6 1A3 (in), 7 2Y2 (hiz), 8 1A4 (in), 9 2Y1 (hiz), 10 GND (power), 11 2A1 (in), 12 1Y4 (hiz), 13 2A2 (in), 14 1Y3 (hiz), 15 2A3 (in), 16 1Y2 (hiz), 17 2A4 (in), 18 1Y1 (hiz), 19 2~{OE} (in), 20 VCC (power)

## SN74LS245N
designator U?
Octal Bus Transceiver with 3-State Outputs; Manufacturer: Texas Instruments; Revised: 12-July-2000: SIM Model Added.; Class: Interface; SubClass: Line Transceiver; Published: 8/06/2000; Publisher: Altium Hobart Technology Centre; Series: 8-Bit
simulation model SN74LS245 (SIMCODE)
signal-integrity model SN74LS245N
footprint DIP20
pins: 1 T/~{R} (in), 2 A0 (io), 3 A1 (io), 4 A2 (io), 5 A3 (io), 6 A4 (io), 7 A5 (io), 8 A6 (io), 9 A7 (io), 10 GND (power), 11 B7 (io), 12 B6 (io), 13 B5 (io), 14 B4 (io), 15 B3 (io), 16 B2 (io), 17 B1 (io), 18 B0 (io), 19 ~{OE} (in), 20 VCC (power)

## SN74LS373N
designator U?
Octal D-Type Transparent Latche and Edge-Triggered Flip-Flops; Manufacturer: Texas Instruments; Class: Logic; SubClass: Latch; Published: 8-Jun-2000.; Publisher: Altium Hobart Technology Centre
simulation model SN74LS373 (SIMCODE)
signal-integrity model SN74LS373N
footprint DIP20
pins: 1 ~{OE} (in), 2 Q1 (hiz), 3 D1 (in), 4 D2 (in), 5 Q2 (hiz), 6 Q3 (hiz), 7 D3 (in), 8 D4 (in), 9 Q4 (hiz), 10 GND (power), 11 LE (in), 12 Q5 (hiz), 13 D5 (in), 14 D6 (in), 15 Q6 (hiz), 16 Q7 (hiz), 17 D7 (in), 18 D8 (in), 19 Q8 (hiz), 20 VCC (power)

## SN74LS373N-1
designator U?
Octal 3-State Non-Inverting Transparent Latch; Class: Logic; SubClass: Latch
signal-integrity model MC74HC373N
footprint DIP20
pins: 1 ~{OE} (in), 2 Q0 (hiz), 3 D0 (in), 4 D1 (in), 5 Q1 (hiz), 6 Q2 (hiz), 7 D2 (in), 8 D3 (in), 9 Q3 (hiz), 10 GND (power), 11 LE (in), 12 Q4 (hiz), 13 D4 (in), 14 D5 (in), 15 Q5 (hiz), 16 Q6 (hiz), 17 D6 (in), 18 D7 (in), 19 Q7 (hiz), 20 VDD (power)

## Socket
designator X?
Socket; Manufacturer: Generic Components; Class: Connector
signal-integrity model Connector
pins: 1

## SR5S5/100A
designator U?
3kVDC Isolated 1W Dual Output; Manufacturer: Beijing Xing Yuan Jia Tai Science & Technolog,Co.,LTD; Class: Power Management; SubClass: DC-DC Converter; Note: Pins 3 and 4 are not present.; Published: 8/06/2000; Publisher: Altium Hobart Technology Centre
footprint SR-DC-DC/A
pins: 1 VIN (power), 2 -VIN (power), 3 +V (power), 4 NC (out), 5 GND (power)

## SW-DIP2
designator S?
DIP Switch,2-bit; Manufacturer: Generic Components; Published: 1999
simulation model dpsw4 (Spice Subcircuit)
footprint SW-DIP-2
pins: 1, 2, 3, 4

## SW-DIP3
designator S?
DIP Switch,3-bit; Manufacturer: Generic Components; Published: 1999
simulation model dpsw4 (Spice Subcircuit)
footprint SW-DIP-3
pins: 1, 2, 3, 4, 5, 6

## SW-DIP4
designator S?
DIP Switch,4-bit; Manufacturer: Generic Components; Published: 1999
simulation model dpsw4 (Spice Subcircuit)
footprint SW-DIP-4
pins: 1, 2, 3, 4, 5, 6, 7, 8

## SW-DIP5
designator S?
DIP Switch,5-bit; Manufacturer: Generic Components; Published: 1999
simulation model dpsw4 (Spice Subcircuit)
footprint SW-DIP-5C
pins: 1, 2, 3, 4, 5, 6, 7, 8, 9, 10

## SW-DIP6
designator S?
DIP Switch,6-bit; Manufacturer: Generic Components; Published: 1999
simulation model dpsw4 (Spice Subcircuit)
footprint SW-DIP-6C
pins: 1, 2, 3, 4, 5, 6, 7, 8, 9, 10, 11, 12

## SW-DIP8
designator S?
DIP Switch,8-bit; Manufacturer: Generic Components; Published: 1999
simulation model dpsw8 (Spice Subcircuit)
footprint SW-DIP-8
pins: 1, 2, 3, 4, 5, 6, 7, 8, 9, 10, 11, 12, 13, 14, 15, 16

## SW-DPDT
designator S?
Switch; Manufacturer: Generic Components; Published: 1999
footprint DPDT-6XC
footprint DPDT-6X
footprint DPDT-6Z
footprint DPDT-6ZC
pins: 1 NC1, 2 COMMON1, 3 NO1, 4 NO2, 5 COMMON2, 6 NC2

## SW-PB
designator S?
Switch; Manufacturer: Generic Components; Published: 1999
footprint SW-PB-4M
footprint SW-PB-4S
pins: 1, 2

## SW-PB_1
designator S?
Switch; Manufacturer: Generic Components; Published: 1999
footprint SW-PB-4M
footprint SW-PB-4S
footprint SW-PB-2B
footprint SW-PB-12mm
pins: 1, 2

## SW-SPDT
designator S?
Single-Pole, Double-Throw Switch; Manufacturer: Generic Components; Published: 1999
footprint SPDT-3Z
footprint SPDT-3Z - 17mm
footprint DPDT-3X
pins: 1 NC, 2 COMMON, 3 NO

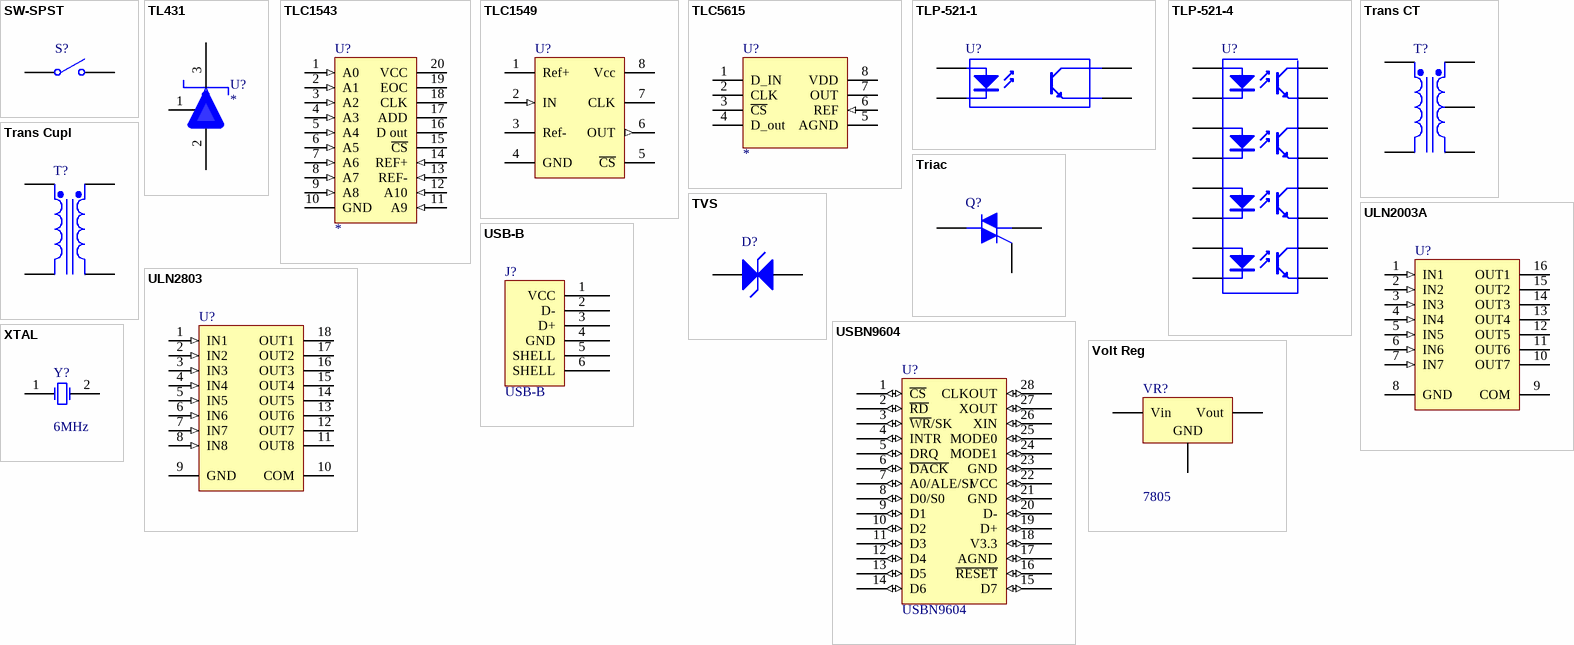
[diagram p9: symbols SW-SPST to XTAL]

## SW-SPST
designator S?
Single-Pole, Single-Throw Switch; Manufacturer: Generic Components; Published: 1999
pins: 1 COMMON, 2 NO

## TL431
designator U?
footprint BCY-3
pins: 1 REF (hiz), 2 G (power), 3 V (power)

## TLC1543
designator U?
10-bit  11-channel  A/D converters
footprint DIP20
pins: 1 A0 (in), 2 A1 (in), 3 A2 (in), 4 A3 (in), 5 A4 (in), 6 A5 (in), 7 A6 (in), 8 A7 (in), 9 A8 (in), 10 GND (power), 11 A9 (in), 12 A10 (in), 13 REF- (in), 14 REF+ (in), 15 ~{CS} (hiz), 16 D out (hiz), 17 ADD (hiz), 18 CLK (hiz), 19 EOC (hiz), 20 VCC (power)

## TLC1549
designator U?
10-Bit Compatible A/D Converter  Serial; Manufacturer: Generic Components; Published: 1999; Class: A/D Converter
simulation model OPTOISO (Spice Subcircuit)
footprint DIP8
pins: 1 Ref+, 2 IN (in), 3 Ref-, 4 GND (power), 5 ~{CS}, 6 OUT (out), 7 CLK, 8 Vcc (power)

## TLC5615
designator U?
10-bit  D/A
footprint DIP8
pins: 1 D_IN (hiz), 2 CLK (hiz), 3 ~{CS} (hiz), 4 D_out (hiz), 5 AGND (power), 6 REF (in), 7 OUT (hiz), 8 VDD (power)

## TLP-521-1
designator U?
Optoisolator; Manufacturer: Generic Components; Class: Optoelectronic; Published: 1999
footprint DIP4
pins: 1 A, 2 K, 3 E, 4 C

## TLP-521-4
designator U?
Optoisolator; Manufacturer: Generic Components; Class: Optoelectronic; Published: 1999
footprint DIP16
pins: 1, 2, 3, 4, 5, 6, 7, 8, 9, 10, 11, 12, 13, 14, 15, 16

## Trans CT
designator T?
Center-Tapped Transformer (Coupled Inductor Model); Manufacturer: Generic Components; Class: Passive; Published: 08/06/2000; Publisher: Altium Hobart Technology Centre; SubClass: Transformer
simulation model TRANSFORMER (Transformer)
pins: 1 Pri+, 2 Pri-, 3 Sec+, 4 SecCT, 5 Sec-

## Trans Cupl
designator T?
Transformer (Coupled Inductor Model); Manufacturer: Generic Components; Class: Passive; Published: 08/06/2000; Publisher: Altium Hobart Technology Centre; SubClass: Transformer
simulation model TRANSFORMER (Transformer)
pins: 1 Pri+, 2 Pri-, 3 Sec+, 4 Sec-

## Triac
designator Q?
Silicon Bidirectional Triode Thyristor; Manufacturer: Generic Components; Class: Discrete; SubClass: TRIAC; Note: Pin 2 is electrically connected to Pin 4 (TAB); Published: 29/09/2000
simulation model MAC15A8 (Spice Subcircuit)
footprint SIP-W3/BTA06-12
pins: 1, 2, 3

## TVS
designator D?
Transient VoltagEe Suppressor; Manufacturer: Generic Components; Class: Discrete; SubClass: TVS; Published: 08/06/2000; Publisher: Altium Hobart Technology Centre
simulation model DIODE (Diode)
signal-integrity model Diode
footprint TVS-P6KE
footprint TVS-P6KE - YM
pins: 1 A, 2 K

## ULN2003A
designator U?
Seven Darlington Array; Manufacturer: ST-Microelectronics; Class: Interface; SubClass: Darlington Driver; Published: 8-Jun-2000.; Publisher: Altium Hobart Technology Centre
footprint DIP16
pins: 1 IN1 (in), 2 IN2 (in), 3 IN3 (in), 4 IN4 (in), 5 IN5 (in), 6 IN6 (in), 7 IN7 (in), 8 GND (power), 9 COM, 10 OUT7 (oc), 11 OUT6 (oc), 12 OUT5 (oc), 13 OUT4 (oc), 14 OUT3 (oc), 15 OUT2 (oc), 16 OUT1 (oc)

## ULN2803
designator U?
Seven Darlington Array; Manufacturer: ST-Microelectronics; Class: Interface; SubClass: Darlington Driver; Published: 8-Jun-2000.; Publisher: Altium Hobart Technology Centre
footprint DIP18
pins: 1 IN1 (in), 2 IN2 (in), 3 IN3 (in), 4 IN4 (in), 5 IN5 (in), 6 IN6 (in), 7 IN7 (in), 8 IN8 (in), 9 GND (power), 10 COM, 11 OUT8 (oc), 12 OUT7 (oc), 13 OUT6 (oc), 14 OUT5 (oc), 15 OUT4 (oc), 16 OUT3 (oc), 17 OUT2 (oc), 18 OUT1 (oc)

## USB-B
designator J?
footprint USB-B
pins: 1 VCC (power), 2 D-, 3 D+, 4 GND (power), 5 SHELL, 6 SHELL

## USBN9604
designator U?
footprint SOP28_USB
pins: 1 ~{CS} (io), 2 ~{RD} (io), 3 ~{WR}/SK (io), 4 INTR (io), 5 DRQ (io), 6 ~{DACK} (io), 7 A0/ALE/SI (io), 8 D0/S0 (io), 9 D1 (io), 10 D2 (io), 11 D3 (io), 12 D4 (io), 13 D5 (io), 14 D6 (io), 15 D7 (io), 16 ~{RESET} (io), 17 AGND (io), 18 V3.3 (io), 19 D+ (io), 20 D- (io), 21 GND (io), 22 VCC (io), 23 GND (io), 24 MODE1 (io), 25 MODE0 (io), 26 XIN (io), 27 XOUT (io), 28 CLKOUT (io)

## Volt Reg
designator VR?  value 7805
Voltage Regulator; Manufacturer: Generic Components; Class: Power Management; Published: 1999; SubClass: Voltage Regulator
footprint SIP-W3
footprint SIP-W3 /SRQ25
footprint SIP-W3/B
footprint SIP-W3 /SRQ25-1
footprint SIP-W3/B - F
pins: 1 Vin, 2 GND, 3 Vout

## XTAL
designator Y?  value 6MHz
Crystal Oscillator; Manufacturer: Generic Components; Published: 08/06/2000; Publisher: Altium Hobart Technology Centre; Class: Oscillator; SubClass: Crystal Oscillator
simulation model XTAL (Spice Subcircuit)
footprint BCY-W2/32.768KHz
footprint BCY-W2/6MHz
pins: 1 OSC1, 2 OSC2